# Altium schematic symbol library SYM-Passive.SchLib: 208 symbols (part 8 of 9)
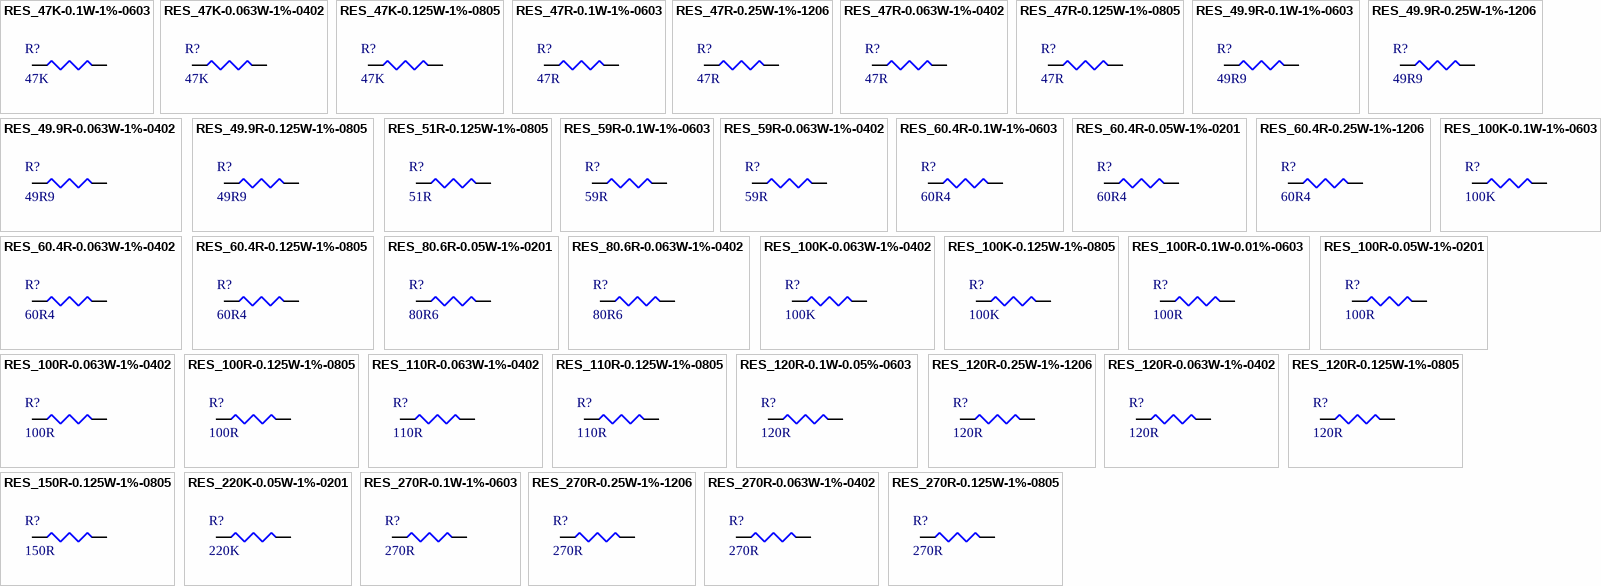
[diagram p12: symbols RES_47K-0.1W-1%-0603 to RES_270R-0.125W-1%-0805]

## RES_60.4R-0.25W-1%-1206
designator R?, comment 60R4
Res Thick Film 1206 60.4 Ohm 1% 1/4W ±100ppm/°C Molded SMD SMD Paper T/R; Manufacturer: Yageo; Manufacturer Part Number: RC1206FR-1360R4L; Value: 60.4R; Power Rating: 250mW; Voltage Rating: 200V; Supplier: Digi-Key; Supplier Part Number: 13-RC1206FR-1360R4LCT-ND; Category: Chip SMD Resistors; Stock: 37118; Pricing: 1=0.10000, 10=0.05900, 100=0.02380, 1000=0.01071, 2500=0.00929, 5000=0.00768 (USD); Case/Package: 1206; Case Code (Imperial): 1206; Case Code (Metric): 3216; Weight: 0.000571oz; Contact Plating: Tin; Min Operating Temperature: -55°C; Max Operating Temperature: 155°C; Tolerance: 1%; Packaging: Tape and Reel; Resistor Type: Thick Film; Termination: SMD/SMT; Temperature Coefficient: 100ppm/°C; Series: RC1206; Length: 3.2mm; Width: 1.6mm; Height: 0.55mm; Radiation Hardening: No; RoHS Compliant: Yes; ComponentLink1URL: http://www.mouser.com/ds/2/447/PYu-RC1206_51_RoHS_L-4-349080.pdf?src-supplier=Mouser; ComponentLink1Description: http://www.mouser.com/ds/2/447/PYu-RC1206_51_RoHS_L-4-349080.pdf?src-supplier=Mouser; ComponentLink2URL: http://www.yageo.com/documents/recent/PYu-RC_Group_51_RoHS_L_2.pdf?src-supplier=Avnet; ComponentLink2Description: http://www.yageo.com/documents/recent/PYu-RC_Group_51_RoHS_L_2.pdf?src-supplier=Avnet; ComponentLink3URL: https://datasheet.octopart.com/RC1206FR-1360R4L-Yageo-datasheet-73766026.pdf; ComponentLink3Description: https://datasheet.octopart.com/RC1206FR-1360R4L-Yageo-datasheet-73766026.pdf
footprint RESC3116X06N - 1206 (Chip Resistor, 2-Leads, Body 3/10x1/60mm, IPC Medium Density)
footprint RESC3116X06M - 1206 (Chip Resistor, 2-Leads, Body 3/10x1/60mm, IPC Low Density)
footprint RESC3116X06L - 1206 (Chip Resistor, 2-Leads, Body 3/10x1/60mm, IPC High Density)
pins: 1, 2

## RES_60.4R-0.063W-1%-0402
designator R?, comment 60R4
Res Thick Film 0402 60.4 Ohm 1% 1/16W ±100ppm/°C Molded SMD Paper T/R; Manufacturer: Yageo; Manufacturer Part Number: RC0402FR-0760R4L; Value: 60.4R; Power Rating: 62.5mW; Voltage Rating: 50V; Max Power Dissipation: 63mW; Supplier: Digi-Key; Supplier Part Number: 311-60.4LRCT-ND; RoHS: Yes; Category: Chip SMD Resistors; Stock: 1115302; Pricing: 1=0.10000, 10=0.01400, 100=0.00580, 1000=0.00262, 2500=0.00228, 5000=0.00188 (USD); Case/Package: 0402; Case Code (Imperial): 0402; Case Code (Metric): 1005; Contact Plating: Tin,Matte; Min Operating Temperature: -55°C; Max Operating Temperature: 155°C; Tolerance: 1%; Packaging: Cut Tape; Package Quantity: 1; Termination: SMD/SMT; Resistor Type: Thick Film; Number of Terminations: 2; Temperature Coefficient: 100ppm/°C; Voltage Rating (DC): 50V; Features: Moisture Resistant; Series: RC; Resistance Tolerance: 1%; Construction: Rectangular; Length: 0.039inch; Width: 0.02inch; Height: 0.016inch; Depth: 0.5mm; Reach SVHC Compliant: Yes; Military Standard: Not; Lead Free: Lead Free; RoHS Compliant: Yes; ComponentLink1URL: https://datasheet.ciiva.com/22643/1018594-22643403.pdf?src-supplier=Element14; ComponentLink1Description: https://datasheet.ciiva.com/22643/1018594-22643403.pdf?src-supplier=Element14; ComponentLink2URL: https://datasheet.ciiva.com/2491/pyu-r-int-thick-7-2491214.pdf?src-supplier=Digi-Key; ComponentLink2Description: https://datasheet.ciiva.com/2491/pyu-r-int-thick-7-2491214.pdf?src-supplier=Digi-Key; ComponentLink3URL: https://datasheet.ciiva.com/2491/pyu-r-int-thick-7-2491215.pdf?src-supplier=Digi-Key; ComponentLink3Description: https://datasheet.ciiva.com/2491/pyu-r-int-thick-7-2491215.pdf?src-supplier=Digi-Key; ComponentLink4URL: https://datasheet.ciiva.com/2491/pyu-r-int-thick-7-2491213.pdf?src-supplier=Digi-Key; ComponentLink4Description: https://datasheet.ciiva.com/2491/pyu-r-int-thick-7-2491213.pdf?src-supplier=Digi-Key
footprint RESC1005X04N - 0402 (Chip Resistor, 2-Leads, Body 1/00x0/50mm, IPC Medium Density)
footprint RESC1005X04M - 0402 (Chip Resistor, 2-Leads, Body 1/00x0/50mm, IPC Low Density)
footprint RESC1005X04L - 0402 (Chip Resistor, 2-Leads, Body 1/00x0/50mm, IPC High Density)
pins: 1, 2

## RES_60.4R-0.125W-1%-0805
designator R?, comment 60R4
Res Thick Film 0805 60.4 Ohm 1% 0.125W(1/8W) ±100ppm/C Pad SMD T/R; Manufacturer: Yageo; Manufacturer Part Number: RC0805FR-0760R4L; Value: 60.4R; Power Rating: 125mW; Temperature Coefficient: 100ppm/°C; Voltage Rating (DC): 150V; Supplier: Digi-Key; Supplier Part Number: 311-60.4CRCT-ND; RoHS: Yes; Category: Chip SMD Resistors; Stock: 405039; Pricing: 1=0.10000, 10=0.03300, 100=0.01330, 1000=0.00600, 2500=0.00520 (USD); Case/Package: 0805; Case Code (Metric): 2012; Case Code (Imperial): 0805; Contact Plating: Tin,Matte,Lead; Min Operating Temperature: -55°C; Max Operating Temperature: 155°C; Package Quantity: 1; Tolerance: 1%; Packaging: Tape and Reel; Resistor Type: Thick Film; Number of Terminations: 2; Max Power Dissipation: 125mW; Features: Moisture Resistant; Series: RC; Construction: Rectangular; Voltage Rating: 150V; Termination: SMD/SMT; Working Voltage: 150V; Technology: THICK FILM; Length: 0.079inch; Width: 0.049inch; Height: 0.024inch; Depth: 1.25mm; Radiation Hardening: No; Military Standard: Not; RoHS Compliant: Yes; Lead Free: Lead Free; ComponentLink1URL: https://datasheet.ciiva.com/2457/pyu-r-int-thick-7-2457216.pdf?src-supplier=Digi-Key; ComponentLink1Description: https://datasheet.ciiva.com/2457/pyu-r-int-thick-7-2457216.pdf?src-supplier=Digi-Key; ComponentLink2URL: https://datasheet.ciiva.com/2457/pyu-r-int-thick-7-2457217.pdf?src-supplier=Digi-Key; ComponentLink2Description: https://datasheet.ciiva.com/2457/pyu-r-int-thick-7-2457217.pdf?src-supplier=Digi-Key; ComponentLink3URL: https://datasheet.ciiva.com/2457/pyu-r-int-thick-7-2457215.pdf?src-supplier=Digi-Key; ComponentLink3Description: https://datasheet.ciiva.com/2457/pyu-r-int-thick-7-2457215.pdf?src-supplier=Digi-Key
footprint RESC2012X05N - 0805 (Chip Resistor, 2-Leads, Body 2/00x1/25mm, IPC Medium Density)
footprint RESC2012X05M - 0805 (Chip Resistor, 2-Leads, Body 2/00x1/25mm, IPC Low Density)
footprint RESC2012X05L - 0805 (Chip Resistor, 2-Leads, Body 2/00x1/25mm, IPC High Density)
pins: 1, 2

## RES_80.6R-0.05W-1%-0201
designator R?, comment 80R6
Res Thick Film 0201 80.6 Ohm 1% 1/20W ±200ppm/°C Molded SMD Paper T/R; Manufacturer: Yageo; Manufacturer Part Number: RC0201FR-0780R6L; Resistance: 80.6R; Max Power Dissipation: 50mW; Supplier 1: Digi-Key; RoHS: Yes; Category: Chip SMD Resistors; Stock 1: 16690; Pricing 1: 1=0/10000, 10=0/04200, 100=0/01700, 1000=0/00765, 2500=0/00664, 5000=0/00548 (USD); Case/Package: 0201; Case Code (Metric): 0603; Case Code (Imperial): 0201; Min Operating Temperature: -55°C; Max Operating Temperature: 125°C; Tolerance: 1%; Packaging: Tape and Reel; Resistor Type: Thick Film; Number of Terminations: 2; Temperature Coefficient: 200ppm/°C; Features: Moisture Resistant; Length: 0.024inch; Width: 0.012inch; Height: 0.01inch; RoHS Compliant: Yes; ComponentLink1URL: http://www.mouser.com/ds/2/447/RC0201-559633.pdf?src-supplier=Mouser; ComponentLink1Description: http://www.mouser.com/ds/2/447/RC0201-559633.pdf?src-supplier=Mouser; ComponentLink2URL: http://www.yageo.com/documents/recent/PYu-RC_Group_51_RoHS_L_9.pdf?src-supplier=Digi-Key; ComponentLink2Description: http://www.yageo.com/documents/recent/PYu-RC_Group_51_RoHS_L_9.pdf?src-supplier=Digi-Key; ComponentLink3URL: http://www.yageo.com/documents/recent/PYu-RC_Group_51_RoHS_L_10.pdf?src-supplier=Digi-Key; ComponentLink3Description: http://www.yageo.com/documents/recent/PYu-RC_Group_51_RoHS_L_10.pdf?src-supplier=Digi-Key; Supplier Part Number 1: YAG2811CT-ND
footprint RESC0603X03N - 0201 (Chip Resistor, 2-Leads, Body 0/60x0/30mm, IPC Medium Density)
footprint RESC0603X03M - 0201 (Chip Resistor, 2-Leads, Body 0/60x0/30mm, IPC Low Density)
footprint RESC0603X03L - 0201 (Chip Resistor, 2-Leads, Body 0/60x0/30mm, IPC High Density)
pins: 1, 2

## RES_80.6R-0.063W-1%-0402
designator R?, comment 80R6
Res Thick Film 0402 80.6 Ohm 1% 0.063W(1/16W) ±100ppm/°C Pad SMD T/R; Manufacturer: Yageo; Manufacturer Part Number: RC0402FR-0780R6L; Resistance: 80.6R; Power Rating: 62.5mW; Voltage Rating: 50V; Max Power Dissipation: 63mW; Supplier 1: Digi-Key; RoHS: Yes; Category: Chip SMD Resistors; Stock 1: 149146; Pricing 1: 1=0/10000, 10=0/01600, 100=0/00660, 1000=0/00299, 2500=0/00259, 5000=0/00214 (USD); Case/Package: 0402; Case Code (Imperial): 0402; Case Code (Metric): 1005; Weight: 2.3E-05oz; Contact Plating: Tin,Matte,Lead; Size Code: 0402; Min Operating Temperature: -55°C; Max Operating Temperature: 155°C; Tolerance: 1%; Packaging: Tape and Reel; Termination: SMD/SMT; Resistor Type: Thick Film; Temperature Coefficient: 100ppm/°C; Voltage Rating (DC): 50V; Features: Moisture Resistant; Series: RC; Number of Terminations: 2; Construction: Rectangular; Length: 1mm; Width: 0.5mm; Height: 0.35mm; Depth: 0.5mm; Radiation Hardening: No; Military Standard: Not; Lead Free: Lead Free; RoHS Compliant: Yes; ComponentLink1URL: https://datasheet.ciiva.com/5562/pyu-rc0402-51-rohs-l-6-r-5562860.pdf?src-supplier=Mouser; ComponentLink1Description: https://datasheet.ciiva.com/5562/pyu-rc0402-51-rohs-l-6-r-5562860.pdf?src-supplier=Mouser; ComponentLink2URL: https://datasheet.ciiva.com/8888/pyu-rc0402-51-rohs-l-6-8888184.pdf?src-supplier=Avnet; ComponentLink2Description: https://datasheet.ciiva.com/8888/pyu-rc0402-51-rohs-l-6-8888184.pdf?src-supplier=Avnet; ComponentLink3URL: https://datasheet.ciiva.com/16742/pyu-rc0402-51-rohs-l-6-r-16742232.pdf?src-supplier=Future+Electronics; ComponentLink3Description: https://datasheet.ciiva.com/16742/pyu-rc0402-51-rohs-l-6-r-16742232.pdf?src-supplier=Future+Electronics; Supplier Part Number 1: 311-80.6LRCT-ND
footprint RESC1005X04N - 0402 (Chip Resistor, 2-Leads, Body 1/00x0/50mm, IPC Medium Density)
footprint RESC1005X04M - 0402 (Chip Resistor, 2-Leads, Body 1/00x0/50mm, IPC Low Density)
footprint RESC1005X04L - 0402 (Chip Resistor, 2-Leads, Body 1/00x0/50mm, IPC High Density)
pins: 1, 2

## RES_100K-0.1W-1%-0603
designator R?, comment 100K
RES SMD 100K OHM 1% 1/10W 0603; Manufacturer: Yageo; Manufacturer Part Number: RC0603FR-07100KL; Resistance: 100kR; Temperature Coefficient: 100ppm/°C; Voltage Rating (DC): 50V; Power Rating: 100mW; Working Voltage: 75V; Supplier 1: Digi-Key; RoHS: Yes; Category: Chip SMD Resistors; Stock 1: 15050155; Pricing 1: 1=0/10000, 10=0/02100, 100=0/00870, 1000=0/00390, 2500=0/00339 (USD); Case/Package: 0603; Number of Pins: 2; Case Code (Imperial): 0603; Case Code (Metric): 1608; Min Operating Temperature: -55°C; Max Operating Temperature: 155°C; Tolerance: 1%; Packaging: Tape and Reel; Resistor Type: Thick Film; Voltage Rating: 50V; Termination: SMD/SMT; Number of Terminations: 2; Features: Moisture Resistant; Series: RC; Max Power Dissipation: 100mW; Resistance Tolerance: 1%; Construction: Rectangular; Technology: THICK FILM; Length: 1.6mm; Width: 0.8mm; Height: 0.45mm; Depth: 0.8mm; Reach SVHC Compliant: Yes; Lead Free: Lead Free; Military Standard: Not; RoHS Compliant: Yes; ComponentLink1URL: https://datasheet.ciiva.com/11808/0900766b80f96399-11808107.pdf?src-supplier=RSComponents; ComponentLink1Description: https://datasheet.ciiva.com/11808/0900766b80f96399-11808107.pdf?src-supplier=RSComponents; ComponentLink2URL: https://datasheet.ciiva.com/7983/443971-7983593.pdf?src-supplier=Element14; ComponentLink2Description: https://datasheet.ciiva.com/7983/443971-7983593.pdf?src-supplier=Element14; ComponentLink3URL: https://datasheet.ciiva.com/22747/443971-22747516.pdf?src-supplier=Element14; ComponentLink3Description: https://datasheet.ciiva.com/22747/443971-22747516.pdf?src-supplier=Element14; ComponentLink4URL: https://datasheet.ciiva.com/46440/1868787-46440889.pdf?src-supplier=Element14; ComponentLink4Description: https://datasheet.ciiva.com/46440/1868787-46440889.pdf?src-supplier=Element14; ComponentLink5URL: https://datasheet.ciiva.com/7746/1738695-7746235.pdf?src-supplier=Element14; ComponentLink5Description: https://datasheet.ciiva.com/7746/1738695-7746235.pdf?src-supplier=Element14; ComponentLink6URL: https://datasheet.ciiva.com/7746/1738695-7746234.pdf?src-supplier=Element14; ComponentLink6Description: https://datasheet.ciiva.com/7746/1738695-7746234.pdf?src-supplier=Element14; Supplier Part Number 1: 311-100KHRCT-ND
footprint RESC1608X04N - 0603 (Chip Resistor, 2-Leads, Body 1/60x0/80mm, IPC Medium Density)
footprint RESC1608X04M - 0603 (Chip Resistor, 2-Leads, Body 1/60x0/80mm, IPC Low Density)
footprint RESC1608X04L - 0603 (Chip Resistor, 2-Leads, Body 1/60x0/80mm, IPC High Density)
pins: 1, 2

## RES_100K-0.063W-1%-0402
designator R?, comment 100K
RES SMD 100K OHM 1% 1/16W 0402; Manufacturer: Yageo; Manufacturer Part Number: RC0402FR-07100KL; Resistance: 100kR; Temperature Coefficient: 100ppm/°C; Power Rating: 63mW; Voltage Rating: 50V; Supplier 1: Digi-Key; RoHS: Yes; Category: Chip SMD Resistors; Stock 1: 43188685; Pricing 1: 1=0/10000, 10=0/01500, 100=0/00600, 1000=0/00267, 2500=0/00232, 5000=0/00192 (USD); Case/Package: 0402; Case Code (Metric): 1005; Case Code (Imperial): 0402; Min Operating Temperature: -55°C; Max Operating Temperature: 155°C; Tolerance: 1%; Packaging: Tape and Reel; Resistor Type: Thick Film; Number of Terminations: 2; Termination: SMD/SMT; Max Power Dissipation: 63mW; Features: Moisture Resistant; Series: RC; Resistance Tolerance: 1%; Construction: Rectangular; Working Voltage: 50V; Technology: THICK FILM; Package Quantity: 1; Length: 0.039inch; Width: 0.02inch; Height: 0.016inch; Depth: 0.5mm; Lead Free: Lead Free; Reach SVHC Compliant: Yes; Military Standard: Not; RoHS Compliant: Yes; Supplier Part Number 1: 311-100KLRCT-ND
footprint RESC1005X04N - 0402 (Chip Resistor, 2-Leads, Body 1/00x0/50mm, IPC Medium Density)
footprint RESC1005X04M - 0402 (Chip Resistor, 2-Leads, Body 1/00x0/50mm, IPC Low Density)
footprint RESC1005X04L - 0402 (Chip Resistor, 2-Leads, Body 1/00x0/50mm, IPC High Density)
pins: 1, 2

## RES_100K-0.125W-1%-0805
designator R?, comment 100K
Res Thick Film 0805 100K Ohm 1% 1/8W ±100ppm/°C Molded SMD Paper T/R; Manufacturer: Yageo; Manufacturer Part Number: RC0805FR-07100KL; Resistance: 100kR; Voltage Rating (DC): 150V; Power Rating: 125mW; Supplier 1: Digi-Key; RoHS: Yes; Category: Chip SMD Resistors; Stock 1: 6578896; Pricing 1: 1=0/10000, 10=0/03700, 100=0/01510, 1000=0/00680, 2500=0/00590 (USD); Case/Package: 0805; Number of Pins: 2; Case Code (Metric): 2012; Case Code (Imperial): 0805; Size Code: 0805; Min Operating Temperature: -55°C; Max Operating Temperature: 155°C; Tolerance: 1%; Packaging: Tape and Reel; Temperature Coefficient: 100ppm/°C; Resistor Type: Thick Film; Voltage Rating: 150V; Package Quantity: 1; Number of Terminations: 2; Termination: SMD/SMT; Max Power Dissipation: 125mW; Features: Moisture Resistant; Series: RC; Construction: Rectangular; Resistance Tolerance: 1%; Technology: THICK FILM; Length: 0.079inch; Width: 0.049inch; Height: 0.024inch; Depth: 1.25mm; Lead Pitch: 0.4mm; Lead Free: Lead Free; Military Standard: Not; RoHS Compliant: Yes; ComponentLink1URL: https://datasheet.ciiva.com/7941/1686128-7941677.pdf?src-supplier=Element14; ComponentLink1Description: https://datasheet.ciiva.com/7941/1686128-7941677.pdf?src-supplier=Element14; ComponentLink2URL: https://datasheet.ciiva.com/7660/38627-7660796.pdf?src-supplier=Element14; ComponentLink2Description: https://datasheet.ciiva.com/7660/38627-7660796.pdf?src-supplier=Element14; Supplier Part Number 1: 311-100KCRCT-ND
footprint RESC2012X05N - 0805 (Chip Resistor, 2-Leads, Body 2/00x1/25mm, IPC Medium Density)
footprint RESC2012X05M - 0805 (Chip Resistor, 2-Leads, Body 2/00x1/25mm, IPC Low Density)
footprint RESC2012X05L - 0805 (Chip Resistor, 2-Leads, Body 2/00x1/25mm, IPC High Density)
pins: 1, 2

## RES_100R-0.1W-0.01%-0603
designator R?, comment 100R
RNCF Precision Thin Film Chip Resistor 0603 Size 100 Ohm 0.01% 0.1 W 5 ppm/°C 2-Pin SMD T/R; Manufacturer: Stackpole Electronics; Manufacturer Part Number: RNCF0603TKY100R; Max Power Dissipation: 100mW; Supplier 1: Digi-Key; RoHS: Yes; Category: Chip SMD Resistors; Stock 1: 8959; Pricing 1: 1=1/95000, 10=1/73200, 100=1/32300 (USD); Mount: Surface Mount; Case/Package: 0603; Case Code (Metric): 1608; Case Code (Imperial): 0603; Min Operating Temperature: -55°C; Max Operating Temperature: 155°C; Resistance: 100R; Tolerance: 0.01%; Packaging: Tape and Reel; Resistor Type: Thin Film; Number of Terminations: 2; Temperature Coefficient: 5ppm/°C; Features: Moisture Resistant; Series: RNCF; Construction: Rectangular; Length: 0.063inch; Width: 0.031inch; Height: 0.022inch; Depth: 0.8mm; Military Standard: Not; Lead Free: Lead Free; RoHS Compliant: Yes; ComponentLink1URL: http://components.arrow.com/part/dataview/53543996S797665N1174?src-supplier=Arrow+Electronics; ComponentLink1Description: http://components.arrow.com/part/dataview/53543996S797665N1174?src-supplier=Arrow+Electronics; ComponentLink2URL: https://www.seielect.com/Catalog/SEI-RNCF.pdf?src-supplier=Digi-Key; ComponentLink2Description: https://www.seielect.com/Catalog/SEI-RNCF.pdf?src-supplier=Digi-Key; ComponentLink3URL: https://www.seielect.com/catalog/SEI-Packaging.pdf?src-supplier=Digi-Key; ComponentLink3Description: https://www.seielect.com/catalog/SEI-Packaging.pdf?src-supplier=Digi-Key; Supplier Part Number 1: RNCF0603TKY100RCT-ND
footprint RESC1608X04N - 0603 (Chip Resistor, 2-Leads, Body 1/60x0/80mm, IPC Medium Density)
footprint RESC1608X04M - 0603 (Chip Resistor, 2-Leads, Body 1/60x0/80mm, IPC Low Density)
footprint RESC1608X04L - 0603 (Chip Resistor, 2-Leads, Body 1/60x0/80mm, IPC High Density)
pins: 1, 2

## RES_100R-0.05W-1%-0201
designator R?, comment 100R
Res Thick Film 0201 10 Ohm 1% 1/20W -100ppm/°C to 350ppm/°C Molded SMD SMD Paper T/R; Manufacturer: Yageo; Manufacturer Part Number: RC0201FR-0710RL; Resistance: 10R; Power Rating: 50mW; Voltage Rating: 25V; Supplier 1: Digi-Key; RoHS: Yes; Category: Chip SMD Resistors; Stock 1: 22308; Pricing 1: 1=0/10000, 10=0/06300, 100=0/02560, 1000=0/01149, 2500=0/00997, 5000=0/00824 (USD); Case/Package: 0201; Case Code (Imperial): 0201; Case Code (Metric): 0603; Contact Plating: Tin,Matte; Size Code: 0201; Min Operating Temperature: -55°C; Max Operating Temperature: 125°C; Tolerance: 1%; Packaging: Tape and Reel; Package Quantity: 1; Termination: SMD/SMT; Resistor Type: Thick Film; Temperature Coefficient: 350ppm/°C; Number of Terminations: 2; Max Power Dissipation: 50mW; Features: Moisture Resistant; Series: RC; Resistance Tolerance: 1%; Length: 0.024inch; Width: 0.012inch; Height: 0.01inch; Radiation Hardening: No; REACH SVHC: No SVHC; Lead Free: Lead Free; RoHS Compliant: Yes; ComponentLink1URL: https://datasheet.ciiva.com/2467/pyu-r-int-thick-7-2467097.pdf?src-supplier=Digi-Key; ComponentLink1Description: https://datasheet.ciiva.com/2467/pyu-r-int-thick-7-2467097.pdf?src-supplier=Digi-Key; ComponentLink2URL: https://datasheet.ciiva.com/2467/pyu-r-int-thick-7-2467098.pdf?src-supplier=Digi-Key; ComponentLink2Description: https://datasheet.ciiva.com/2467/pyu-r-int-thick-7-2467098.pdf?src-supplier=Digi-Key; ComponentLink3URL: https://datasheet.ciiva.com/2467/pyu-r-int-thick-7-2467099.pdf?src-supplier=Digi-Key; ComponentLink3Description: https://datasheet.ciiva.com/2467/pyu-r-int-thick-7-2467099.pdf?src-supplier=Digi-Key; ComponentLink4URL: https://datasheet.ciiva.com/5757/1563626-5757896.pdf?src-supplier=Farnell; ComponentLink4Description: https://datasheet.ciiva.com/5757/1563626-5757896.pdf?src-supplier=Farnell; ComponentLink5URL: https://datasheet.ciiva.com/7672/1563626-7672197.pdf?src-supplier=Element14; ComponentLink5Description: https://datasheet.ciiva.com/7672/1563626-7672197.pdf?src-supplier=Element14; ComponentLink6URL: https://datasheet.ciiva.com/16855/pyu-rc0201-51-rohs-l-8-16855798.pdf?src-supplier=Avnet+Europe; ComponentLink6Description: https://datasheet.ciiva.com/16855/pyu-rc0201-51-rohs-l-8-16855798.pdf?src-supplier=Avnet+Europe; ComponentLink7URL: https://datasheet.ciiva.com/28405/pyu-rc0201-51-rohs-l-8-28405493.pdf?src-supplier=Avnet+Europe; ComponentLink7Description: https://datasheet.ciiva.com/28405/pyu-rc0201-51-rohs-l-8-28405493.pdf?src-supplier=Avnet+Europe; Supplier Part Number 1: 311-10.0MCT-ND
footprint RESC0603X03N - 0201 (Chip Resistor, 2-Leads, Body 0/60x0/30mm, IPC Medium Density)
footprint RESC0603X03M - 0201 (Chip Resistor, 2-Leads, Body 0/60x0/30mm, IPC Low Density)
footprint RESC0603X03L - 0201 (Chip Resistor, 2-Leads, Body 0/60x0/30mm, IPC High Density)
pins: 1, 2

## RES_100R-0.063W-1%-0402
designator R?, comment 100R
Res General Purpose Thick Film 0402 100 Ohm 1% 1/16W ±100ppm/°C Molded SMD Paper T/R; Manufacturer: Yageo; Manufacturer Part Number: RC0402FR-07100RL; Power Rating: 62.5mW; Voltage Rating: 50V; Max Power Dissipation: 63mW; Supplier 1: Digi-Key; RoHS: Yes; Category: Chip SMD Resistors; Pricing 1: 1=0/10000, 10=0/01600, 100=0/00660, 1000=0/00299, 2500=0/00259, 5000=0/00214 (USD); Case/Package: 0402; Number of Pins: 2; Case Code (Imperial): 0402; Case Code (Metric): 1005; Size Code: 0402; Min Operating Temperature: -55°C; Max Operating Temperature: 155°C; Tolerance: 1%; Resistance: 100R; Packaging: Tape and Reel; Termination: SMD/SMT; Resistor Type: Thick Film; Temperature Coefficient: 100ppm/°C; Features: Moisture Resistant; Series: RC; Number of Terminations: 2; Resistance Tolerance: 1%; Construction: Rectangular; Technology: THICK FILM; Voltage Rating (DC): 50V; Length: 1mm; Width: 0.5mm; Height: 0.32mm; Depth: 0.5mm; REACH SVHC: No SVHC; Military Standard: Not; Lead Free: Lead Free; RoHS Compliant: Yes; ComponentLink1URL: https://datasheet.ciiva.com/7849/1784430-7849810.pdf?src-supplier=Element14; ComponentLink1Description: https://datasheet.ciiva.com/7849/1784430-7849810.pdf?src-supplier=Element14; ComponentLink2URL: https://datasheet.ciiva.com/11808/0900766b80c66297-11808765.pdf?src-supplier=RSComponents; ComponentLink2Description: https://datasheet.ciiva.com/11808/0900766b80c66297-11808765.pdf?src-supplier=RSComponents; ComponentLink3URL: https://datasheet.ciiva.com/12667/pyu-rc0402-51-rohs-l-6-r-12667957.pdf?src-supplier=Mouser; ComponentLink3Description: https://datasheet.ciiva.com/12667/pyu-rc0402-51-rohs-l-6-r-12667957.pdf?src-supplier=Mouser; ComponentLink4URL: https://datasheet.ciiva.com/16740/pyu-rc0402-51-rohs-l-6-r-16740566.pdf?src-supplier=Future+Electronics; ComponentLink4Description: https://datasheet.ciiva.com/16740/pyu-rc0402-51-rohs-l-6-r-16740566.pdf?src-supplier=Future+Electronics; ComponentLink5URL: https://datasheet.ciiva.com/15189/getdatasheetpartid-329466-15189335.pdf?src-supplier=Verical; ComponentLink5Description: https://datasheet.ciiva.com/15189/getdatasheetpartid-329466-15189335.pdf?src-supplier=Verical; ComponentLink6URL: https://datasheet.ciiva.com/22747/1018594-22747511.pdf?src-supplier=Element14; ComponentLink6Description: https://datasheet.ciiva.com/22747/1018594-22747511.pdf?src-supplier=Element14; ComponentLink7URL: https://datasheet.ciiva.com/28367/1018594-28367226.pdf?src-supplier=Element14; ComponentLink7Description: https://datasheet.ciiva.com/28367/1018594-28367226.pdf?src-supplier=Element14; Supplier Part Number 1: 311-100LRCT-ND
footprint RESC1005X04N - 0402 (Chip Resistor, 2-Leads, Body 1/00x0/50mm, IPC Medium Density)
footprint RESC1005X04M - 0402 (Chip Resistor, 2-Leads, Body 1/00x0/50mm, IPC Low Density)
footprint RESC1005X04L - 0402 (Chip Resistor, 2-Leads, Body 1/00x0/50mm, IPC High Density)
pins: 1, 2

## RES_100R-0.125W-1%-0805
designator R?, comment 100R
RC Series 0805 0.125 W 100 Ohm ±1% ±100 ppm/°C SMT Thick Film Chip Resistor; Manufacturer: Yageo; Manufacturer Part Number: RC0805FR-13100RL; Power Rating: 125mW; Voltage Rating: 150V; Supplier 1: Digi-Key; Category: Chip SMD Resistors; Stock 1: 42971; Pricing 1: 1=0/10000, 10=0/04200, 100=0/01690, 1000=0/00759, 2500=0/00659, 5000=0/00544 (USD); Case/Package: 0805; Case Code (Imperial): 0805; Case Code (Metric): 2012; Contact Plating: Tin; Min Operating Temperature: -55°C; Max Operating Temperature: 155°C; Resistance: 100R; Tolerance: 1%; Packaging: Tape and Reel; Resistor Type: Thick Film; Termination: SMD/SMT; Temperature Coefficient: 100ppm/°C; Series: RC; Length: 2mm; Width: 1.25mm; Height: 0.5mm; Radiation Hardening: No; RoHS Compliant: Yes; ComponentLink1URL: https://datasheet.ciiva.com/12560/rc0805-257173-12560677.pdf?src-supplier=Mouser; ComponentLink1Description: https://datasheet.ciiva.com/12560/rc0805-257173-12560677.pdf?src-supplier=Mouser; ComponentLink2URL: https://datasheet.octopart.com/RC0805FR-13100RL-Yageo-datasheet-73766026.pdf; ComponentLink2Description: https://datasheet.octopart.com/RC0805FR-13100RL-Yageo-datasheet-73766026.pdf; ComponentLink3URL: https://datasheet.octopart.com/RC0805FR-13100RL-Yageo-datasheet-127823281.pdf?src-supplier=Future+Electronics; ComponentLink3Description: https://datasheet.octopart.com/RC0805FR-13100RL-Yageo-datasheet-127823281.pdf?src-supplier=Future+Electronics; ComponentLink4URL: https://datasheet.octopart.com/RC0805FR-13100RL-Yageo-datasheet-137700087.pdf?src-supplier=Future+Electronics; ComponentLink4Description: https://datasheet.octopart.com/RC0805FR-13100RL-Yageo-datasheet-137700087.pdf?src-supplier=Future+Electronics; ComponentLink5URL: https://datasheet.octopart.com/RC0805FR-13100RL-Yageo-datasheet-148775077.pdf?src-supplier=TME; ComponentLink5Description: https://datasheet.octopart.com/RC0805FR-13100RL-Yageo-datasheet-148775077.pdf?src-supplier=TME; Supplier Part Number 1: 13-RC0805FR-13100RLCT-ND
footprint RESC2012X05N - 0805 (Chip Resistor, 2-Leads, Body 2/00x1/25mm, IPC Medium Density)
footprint RESC2012X05M - 0805 (Chip Resistor, 2-Leads, Body 2/00x1/25mm, IPC Low Density)
footprint RESC2012X05L - 0805 (Chip Resistor, 2-Leads, Body 2/00x1/25mm, IPC High Density)
pins: 1, 2

## RES_110R-0.063W-1%-0402
designator R?, comment 110R
Res General Purpose Thick Film 0402 110 Ohm 1% 1/16W ±100ppm/°C Molded SMD Paper T/R; Manufacturer: Yageo; Manufacturer Part Number: RC0402FR-07110RL; Power Rating: 63mW; Voltage Rating: 50V; Supplier 1: Digi-Key; RoHS: Yes; Category: Chip SMD Resistors; Stock 1: 5787; Pricing 1: 1=0/10000, 10=0/01600, 100=0/00660, 1000=0/00299, 2500=0/00259, 5000=0/00214 (USD); Case/Package: 0402; Number of Pins: 2; Case Code (Imperial): 0402; Case Code (Metric): 1005; Weight: 2.3E-05oz; Size Code: 0402; Min Operating Temperature: -55°C; Max Operating Temperature: 155°C; Resistance: 110R; Tolerance: 1%; Packaging: Tape and Reel; Resistor Type: Thick Film; Termination: SMD/SMT; Temperature Coefficient: 100ppm/°C; Voltage Rating (DC): 50V; Features: Moisture Resistant; Series: RC; Max Power Dissipation: 63mW; Number of Terminations: 2; Resistance Tolerance: 1%; Construction: Rectangular; Length: 1mm; Width: 0.5mm; Height: 0.35mm; Depth: 0.5mm; REACH SVHC: No SVHC; Military Standard: Not; Lead Free: Lead Free; RoHS Compliant: Yes; ComponentLink1URL: https://datasheet.ciiva.com/12577/pyu-rc0402-51-rohs-l-6-r-12577287.pdf?src-supplier=Mouser; ComponentLink1Description: https://datasheet.ciiva.com/12577/pyu-rc0402-51-rohs-l-6-r-12577287.pdf?src-supplier=Mouser; ComponentLink2URL: https://datasheet.ciiva.com/17070/pyu-rc0402-51-rohs-l-6-r-17070361.pdf?src-supplier=Future+Electronics; ComponentLink2Description: https://datasheet.ciiva.com/17070/pyu-rc0402-51-rohs-l-6-r-17070361.pdf?src-supplier=Future+Electronics; ComponentLink3URL: https://datasheet.ciiva.com/15189/getdatasheetpartid-325087-15189341.pdf?src-supplier=Verical; ComponentLink3Description: https://datasheet.ciiva.com/15189/getdatasheetpartid-325087-15189341.pdf?src-supplier=Verical; ComponentLink4URL: https://datasheet.ciiva.com/7849/1018594-7849822.pdf?src-supplier=Element14; ComponentLink4Description: https://datasheet.ciiva.com/7849/1018594-7849822.pdf?src-supplier=Element14; ComponentLink5URL: https://datasheet.ciiva.com/7849/1018594-7849823.pdf?src-supplier=Element14; ComponentLink5Description: https://datasheet.ciiva.com/7849/1018594-7849823.pdf?src-supplier=Element14; Supplier Part Number 1: 311-110LRCT-ND
footprint RESC1005X04N - 0402 (Chip Resistor, 2-Leads, Body 1/00x0/50mm, IPC Medium Density)
footprint RESC1005X04M - 0402 (Chip Resistor, 2-Leads, Body 1/00x0/50mm, IPC Low Density)
footprint RESC1005X04L - 0402 (Chip Resistor, 2-Leads, Body 1/00x0/50mm, IPC High Density)
pins: 1, 2

## RES_110R-0.125W-1%-0805
designator R?, comment 110R
Res Thick Film 0805 1.1 Ohm 1% 1/8W 200ppm/C SMD Paper T/R; Manufacturer: Yageo; Manufacturer Part Number: RC0805FR-071R1L; Power Rating: 125mW; Voltage Rating: 150V; Temperature Coefficient: 200ppm/°C; Supplier 1: Digi-Key; RoHS: Yes; Category: Chip SMD Resistors; Stock 1: 63336; Pricing 1: 1=0/10000, 10=0/08300, 100=0/03390, 1000=0/01521, 2500=0/01320 (USD); Case/Package: 0805; Case Code (Imperial): 0805; Case Code (Metric): 2012; Contact Plating: Tin,Lead,Matte; Min Operating Temperature: -55°C; Max Operating Temperature: 155°C; Resistance: 110R; Tolerance: 1%; Packaging: Tape and Reel; Termination: SMD/SMT; Resistor Type: Thick Film; Voltage Rating (DC): 150V; Features: Moisture Resistant; Series: RC; Max Power Dissipation: 125mW; Number of Terminations: 2; Length: 2mm; Width: 1.25mm; Height: 0.5mm; Radiation Hardening: No; Lead Free: Lead Free; RoHS Compliant: Yes; ComponentLink1URL: https://datasheet.ciiva.com/12575/rc0805-257173-12575992.pdf?src-supplier=Mouser; ComponentLink1Description: https://datasheet.ciiva.com/12575/rc0805-257173-12575992.pdf?src-supplier=Mouser; Supplier Part Number 1: 311-1.10CRCT-ND
footprint RESC2012X05N - 0805 (Chip Resistor, 2-Leads, Body 2/00x1/25mm, IPC Medium Density)
footprint RESC2012X05M - 0805 (Chip Resistor, 2-Leads, Body 2/00x1/25mm, IPC Low Density)
footprint RESC2012X05L - 0805 (Chip Resistor, 2-Leads, Body 2/00x1/25mm, IPC High Density)
pins: 1, 2

## RES_120R-0.1W-0.05%-0603
designator R?, comment 120R
RES SMD 120 OHM 0.05% 1/10W 0603; Manufacturer: Yageo; Manufacturer Part Number: RT0603WRC07120RL; Max Power Dissipation: 100mW; Temperature Coefficient: 15ppm/°C; Supplier 1: Digi-Key; RoHS: Yes; Category: Chip SMD Resistors; Pricing 1: 5000=0/33646 (USD); Case/Package: 0603; Min Operating Temperature: -55°C; Max Operating Temperature: 155°C; Package Quantity: 5000; Packaging: Tape and Reel; Resistance: 120R; Resistor Type: Thin Film; Number of Terminations: 2; Tolerance: 0.05%; Features: Moisture Resistant; Length: 0.063inch; Width: 0.031inch; Height: 0.022inch; RoHS Compliant: Yes; ComponentLink1URL: http://www.yageo.com/documents/recent/PYu-RT_1-to-0.01_RoHS_L_9.pdf?src-supplier=Digi-Key; ComponentLink1Description: http://www.yageo.com/documents/recent/PYu-RT_1-to-0.01_RoHS_L_9.pdf?src-supplier=Digi-Key; Supplier Part Number 1: RT0603WRC07120RL-ND
footprint RESC1608X04N - 0603 (Chip Resistor, 2-Leads, Body 1/60x0/80mm, IPC Medium Density)
footprint RESC1608X04M - 0603 (Chip Resistor, 2-Leads, Body 1/60x0/80mm, IPC Low Density)
footprint RESC1608X04L - 0603 (Chip Resistor, 2-Leads, Body 1/60x0/80mm, IPC High Density)
pins: 1, 2

## RES_120R-0.25W-1%-1206
designator R?, comment 120R
Res Thick Film 1206 120 Ohm 1% 0.25W(1/4W) ±100ppm/C Pad SMD T/R; Manufacturer: Yageo; Manufacturer Part Number: RC1206FR-07120RL; Temperature Coefficient: 100ppm/°C; Power Rating: 250mW; Voltage Rating: 200V; Supplier: Digi-Key; Supplier Part Number: 311-120FRCT-ND; RoHS: Yes; Category: Chip SMD Resistors; Stock: 280758; Pricing: 1=0.10000, 10=0.05900, 100=0.02380, 1000=0.01071, 2500=0.00929 (USD); Case/Package: 1206; Case Code (Imperial): 1206; Case Code (Metric): 3216; Min Operating Temperature: -55°C; Max Operating Temperature: 155°C; Value: 120R; Tolerance: 1%; Packaging: Cut Tape; Resistor Type: Thick Film; Package Quantity: 5000; Termination: SMD/SMT; Features: Moisture Resistant; Series: RC; Max Power Dissipation: 250mW; Number of Terminations: 2; Resistance Tolerance: 1%; Technology: THICK FILM; Length: 3.1mm; Width: 1.6mm; Height: 0.55mm; Depth: 1.6mm; Lead Free: Lead Free; RoHS Compliant: Yes; ComponentLink1URL: https://datasheet.ciiva.com/11819/0900766b80c6630a-11819893.pdf?src-supplier=Rs; ComponentLink1Description: https://datasheet.ciiva.com/11819/0900766b80c6630a-11819893.pdf?src-supplier=Rs; ComponentLink2URL: https://datasheet.ciiva.com/16746/pyu-rc1206-51-rohs-l-4-16746171.pdf?src-supplier=Future+Electronics; ComponentLink2Description: https://datasheet.ciiva.com/16746/pyu-rc1206-51-rohs-l-4-16746171.pdf?src-supplier=Future+Electronics; ComponentLink3URL: https://datasheet.ciiva.com/7857/444357-7857253.pdf?src-supplier=Element14; ComponentLink3Description: https://datasheet.ciiva.com/7857/444357-7857253.pdf?src-supplier=Element14
footprint RESC3116X06N - 1206 (Chip Resistor, 2-Leads, Body 3/10x1/60mm, IPC Medium Density)
footprint RESC3116X06M - 1206 (Chip Resistor, 2-Leads, Body 3/10x1/60mm, IPC Low Density)
footprint RESC3116X06L - 1206 (Chip Resistor, 2-Leads, Body 3/10x1/60mm, IPC High Density)
pins: 1, 2

## RES_120R-0.063W-1%-0402
designator R?, comment 120R
Res General Purpose Thick Film 0402 120 Ohm 1% 1/16W ±100ppm/°C Molded Paper T/R; Manufacturer: Yageo; Manufacturer Part Number: RC0402FR-07120RL; Power Rating: 62.5mW; Voltage Rating: 50V; Max Power Dissipation: 63mW; Supplier 1: Digi-Key; RoHS: Yes; Category: Chip SMD Resistors; Stock 1: 1256657; Pricing 1: 1=0/10000, 10=0/01400, 100=0/00580, 1000=0/00262, 2500=0/00228, 5000=0/00188 (USD); Case/Package: 0402; Case Code (Imperial): 0402; Case Code (Metric): 1005; Size Code: 0402; Min Operating Temperature: -55°C; Max Operating Temperature: 155°C; Package Quantity: 1; Resistance: 120R; Tolerance: 1%; Packaging: Tape and Reel; Termination: SMD/SMT; Resistor Type: Thick Film; Number of Terminations: 2; Temperature Coefficient: 100ppm/°C; Features: Moisture Resistant; Series: RC; Resistance Tolerance: 1%; Construction: Rectangular; Technology: THICK FILM; Length: 0.039inch; Width: 0.02inch; Height: 0.016inch; Depth: 0.5mm; Reach SVHC Compliant: Yes; Military Standard: Not; Lead Free: Lead Free; RoHS Compliant: Yes; ComponentLink1URL: https://datasheet.ciiva.com/11808/0900766b80c66297-11808427.pdf?src-supplier=RSComponents; ComponentLink1Description: https://datasheet.ciiva.com/11808/0900766b80c66297-11808427.pdf?src-supplier=RSComponents; ComponentLink2URL: https://datasheet.ciiva.com/2453/pyu-r-int-thick-7-2453470.pdf?src-supplier=Digi-Key; ComponentLink2Description: https://datasheet.ciiva.com/2453/pyu-r-int-thick-7-2453470.pdf?src-supplier=Digi-Key; ComponentLink3URL: https://datasheet.ciiva.com/2453/pyu-r-int-thick-7-2453471.pdf?src-supplier=Digi-Key; ComponentLink3Description: https://datasheet.ciiva.com/2453/pyu-r-int-thick-7-2453471.pdf?src-supplier=Digi-Key; ComponentLink4URL: https://datasheet.ciiva.com/2453/pyu-r-int-thick-7-2453469.pdf?src-supplier=Digi-Key; ComponentLink4Description: https://datasheet.ciiva.com/2453/pyu-r-int-thick-7-2453469.pdf?src-supplier=Digi-Key; ComponentLink5URL: https://datasheet.ciiva.com/12667/pyu-rc0402-51-rohs-l-6-r-12667958.pdf?src-supplier=Mouser; ComponentLink5Description: https://datasheet.ciiva.com/12667/pyu-rc0402-51-rohs-l-6-r-12667958.pdf?src-supplier=Mouser; ComponentLink6URL: https://datasheet.ciiva.com/7849/1018594-7849830.pdf?src-supplier=Element14; ComponentLink6Description: https://datasheet.ciiva.com/7849/1018594-7849830.pdf?src-supplier=Element14; ComponentLink7URL: https://datasheet.ciiva.com/7849/1018594-7849831.pdf?src-supplier=Element14; ComponentLink7Description: https://datasheet.ciiva.com/7849/1018594-7849831.pdf?src-supplier=Element14; Supplier Part Number 1: 311-120LRCT-ND
footprint RESC1005X04N - 0402 (Chip Resistor, 2-Leads, Body 1/00x0/50mm, IPC Medium Density)
footprint RESC1005X04M - 0402 (Chip Resistor, 2-Leads, Body 1/00x0/50mm, IPC Low Density)
footprint RESC1005X04L - 0402 (Chip Resistor, 2-Leads, Body 1/00x0/50mm, IPC High Density)
pins: 1, 2

## RES_120R-0.125W-1%-0805
designator R?, comment 120R
Res Thick Film 0805 120 Ohm 1% 0.125W(1/8W) ±100ppm/C Pad SMD T/R; Manufacturer: Yageo; Manufacturer Part Number: RC0805FR-07120RL; Power Rating: 125mW; Voltage Rating: 150V; Temperature Coefficient: 100ppm/°C; Supplier 1: Digi-Key; RoHS: Yes; Category: Chip SMD Resistors; Stock 1: 1323797; Pricing 1: 1=0/10000, 10=0/04200, 100=0/01690, 1000=0/00759, 2500=0/00659 (USD); Case/Package: 0805; Case Code (Metric): 2012; Case Code (Imperial): 0805; Size Code: 0805; Min Operating Temperature: -55°C; Max Operating Temperature: 155°C; Resistance: 120R; Tolerance: 1%; Package Quantity: 1; Packaging: Tape and Reel; Resistor Type: Thick Film; Number of Terminations: 2; Termination: SMD/SMT; Max Power Dissipation: 125mW; Features: Moisture Resistant; Series: RC; Construction: Rectangular; Technology: THICK FILM; Resistance Tolerance: 1%; Length: 2mm; Width: 0.049inch; Height: 0.5mm; Depth: 1.25mm; REACH SVHC: Unknown; Military Standard: Not; Lead Free: Lead Free; RoHS Compliant: Yes; ComponentLink1URL: https://datasheet.ciiva.com/11819/0900766b8106beab-11819786.pdf?src-supplier=RSComponents; ComponentLink1Description: https://datasheet.ciiva.com/11819/0900766b8106beab-11819786.pdf?src-supplier=RSComponents; ComponentLink2URL: https://datasheet.ciiva.com/2491/pyu-r-int-thick-7-2491586.pdf?src-supplier=Digi-Key; ComponentLink2Description: https://datasheet.ciiva.com/2491/pyu-r-int-thick-7-2491586.pdf?src-supplier=Digi-Key; ComponentLink3URL: https://datasheet.ciiva.com/2491/pyu-r-int-thick-7-2491587.pdf?src-supplier=Digi-Key; ComponentLink3Description: https://datasheet.ciiva.com/2491/pyu-r-int-thick-7-2491587.pdf?src-supplier=Digi-Key; ComponentLink4URL: https://datasheet.ciiva.com/2491/pyu-r-int-thick-7-2491585.pdf?src-supplier=Digi-Key; ComponentLink4Description: https://datasheet.ciiva.com/2491/pyu-r-int-thick-7-2491585.pdf?src-supplier=Digi-Key; ComponentLink5URL: https://datasheet.ciiva.com/12558/rc0805-257173-12558661.pdf?src-supplier=Mouser; ComponentLink5Description: https://datasheet.ciiva.com/12558/rc0805-257173-12558661.pdf?src-supplier=Mouser; ComponentLink6URL: https://datasheet.ciiva.com/7941/444164-7941691.pdf?src-supplier=Element14; ComponentLink6Description: https://datasheet.ciiva.com/7941/444164-7941691.pdf?src-supplier=Element14; ComponentLink7URL: https://datasheet.ciiva.com/7941/444164-7941692.pdf?src-supplier=Element14; ComponentLink7Description: https://datasheet.ciiva.com/7941/444164-7941692.pdf?src-supplier=Element14; ComponentLink8URL: https://datasheet.ciiva.com/16964/rc0805-16964606.pdf?src-supplier=Future+Electronics; ComponentLink8Description: https://datasheet.ciiva.com/16964/rc0805-16964606.pdf?src-supplier=Future+Electronics; Supplier Part Number 1: 311-120CRCT-ND
footprint RESC2012X05N - 0805 (Chip Resistor, 2-Leads, Body 2/00x1/25mm, IPC Medium Density)
footprint RESC2012X05M - 0805 (Chip Resistor, 2-Leads, Body 2/00x1/25mm, IPC Low Density)
footprint RESC2012X05L - 0805 (Chip Resistor, 2-Leads, Body 2/00x1/25mm, IPC High Density)
pins: 1, 2

## RES_150R-0.125W-1%-0805
designator R?, comment 150R
Res Thick Film 0805 150 Ohm 1% 0.125W(1/8W) ±100ppm/°C Pad SMD T/R; Manufacturer: Yageo; Manufacturer Part Number: RC0805FR-07150RL; Power Rating: 125mW; Voltage Rating: 150V; Supplier 1: Digi-Key; RoHS: Yes; Category: Chip SMD Resistors; Stock 1: 2244413; Pricing 1: 1=0/10000, 10=0/04200, 100=0/01690, 1000=0/00759, 2500=0/00659 (USD); Case/Package: 0805; Number of Pins: 2; Case Code (Metric): 2012; Case Code (Imperial): 0805; Size Code: 0805; Min Operating Temperature: -55°C; Max Operating Temperature: 155°C; Resistance: 150R; Tolerance: 1%; Voltage Rating (DC): 150V; Package Quantity: 1; Packaging: Tape and Reel; Resistor Type: Thick Film; Number of Terminations: 2; Termination: SMD/SMT; Temperature Coefficient: 100ppm/°C; Max Power Dissipation: 125mW; Features: Moisture Resistant; Series: RC; Resistance Tolerance: 1%; Technology: THICK FILM; Construction: Rectangular; Length: 2mm; Width: 0.049inch; Height: 0.024inch; Depth: 1.25mm; REACH SVHC: Unknown; Lead Free: Lead Free; RoHS Compliant: Yes; Military Standard: Not; ComponentLink1URL: https://datasheet.ciiva.com/11819/0900766b8106beab-11819782.pdf?src-supplier=RSComponents; ComponentLink1Description: https://datasheet.ciiva.com/11819/0900766b8106beab-11819782.pdf?src-supplier=RSComponents; ComponentLink2URL: https://datasheet.ciiva.com/7660/38627-7660798.pdf?src-supplier=Element14; ComponentLink2Description: https://datasheet.ciiva.com/7660/38627-7660798.pdf?src-supplier=Element14; ComponentLink3URL: https://datasheet.ciiva.com/46447/444164-46447566.pdf?src-supplier=Element14; ComponentLink3Description: https://datasheet.ciiva.com/46447/444164-46447566.pdf?src-supplier=Element14; ComponentLink4URL: https://datasheet.ciiva.com/2457/pyu-r-int-thick-7-2457000.pdf?src-supplier=Digi-Key; ComponentLink4Description: https://datasheet.ciiva.com/2457/pyu-r-int-thick-7-2457000.pdf?src-supplier=Digi-Key; ComponentLink5URL: https://datasheet.ciiva.com/2457/pyu-r-int-thick-7-2457001.pdf?src-supplier=Digi-Key; ComponentLink5Description: https://datasheet.ciiva.com/2457/pyu-r-int-thick-7-2457001.pdf?src-supplier=Digi-Key; ComponentLink6URL: https://datasheet.ciiva.com/2456/pyu-r-int-thick-7-2456999.pdf?src-supplier=Digi-Key; ComponentLink6Description: https://datasheet.ciiva.com/2456/pyu-r-int-thick-7-2456999.pdf?src-supplier=Digi-Key; ComponentLink7URL: https://datasheet.ciiva.com/12668/rc0805-12668251.pdf?src-supplier=Mouser; ComponentLink7Description: https://datasheet.ciiva.com/12668/rc0805-12668251.pdf?src-supplier=Mouser; Supplier Part Number 1: 311-150CRCT-ND
footprint RESC2012X05N - 0805 (Chip Resistor, 2-Leads, Body 2/00x1/25mm, IPC Medium Density)
footprint RESC2012X05M - 0805 (Chip Resistor, 2-Leads, Body 2/00x1/25mm, IPC Low Density)
footprint RESC2012X05L - 0805 (Chip Resistor, 2-Leads, Body 2/00x1/25mm, IPC High Density)
pins: 1, 2

## RES_220K-0.05W-1%-0201
designator R?, comment 220K
YAGEO - RC0201FR-07220KL - SMD Chip Resistor, 0201 [0603 Metric], 220 kohm, RC Series, Thick Film, 50 mW; Tolerance: 1%; Resistance: 220kR; Power Rating: 50mW; Voltage Rating: 25V; Temperature Coefficient: 200ppm/°C; Supplier 1: Digi-Key; Manufacturer: Yageo; Manufacturer Part Number: RC0201FR-07220KL; RoHS: Yes; Category: Chip SMD Resistors; Stock 1: 243785; Pricing 1: 1=0/10000, 10=0/04200, 100=0/01700, 1000=0/00765, 2500=0/00664, 5000=0/00548 (USD); Case/Package: 0201; Case Code (Imperial): 0201; Case Code (Metric): 0603; Size Code: 0201; Min Operating Temperature: -55°C; Max Operating Temperature: 125°C; Packaging: Cut Tape; Package Quantity: 10000; Resistor Type: Thick Film; Number of Terminations: 2; Termination: SMD/SMT; Max Power Dissipation: 50mW; Features: Moisture Resistant; Series: RC; Resistance Tolerance: 1%; Length: 0.024inch; Width: 0.012inch; Height: 0.01inch; REACH SVHC: Unknown; Lead Free: Lead Free; RoHS Compliant: Yes; ComponentLink1URL: https://datasheet.ciiva.com/14985/pyu-r-int-thick-7-14985447.pdf?src-supplier=Digi-Key; ComponentLink1Description: https://datasheet.ciiva.com/14985/pyu-r-int-thick-7-14985447.pdf?src-supplier=Digi-Key; ComponentLink2URL: https://datasheet.ciiva.com/22698/1563626-22698511.pdf?src-supplier=Element14; ComponentLink2Description: https://datasheet.ciiva.com/22698/1563626-22698511.pdf?src-supplier=Element14; Supplier Part Number 1: YAG2277CT-ND
footprint RESC0603X03N - 0201 (Chip Resistor, 2-Leads, Body 0/60x0/30mm, IPC Medium Density)
footprint RESC0603X03M - 0201 (Chip Resistor, 2-Leads, Body 0/60x0/30mm, IPC Low Density)
footprint RESC0603X03L - 0201 (Chip Resistor, 2-Leads, Body 0/60x0/30mm, IPC High Density)
pins: 1, 2

## RES_270R-0.1W-1%-0603
designator R?, comment 270R
Res Thick Film 0603 270 Ohm 1% 0.1W(1/10W) ±100ppm/°C Pad SMD T/R; Manufacturer: Yageo; Manufacturer Part Number: RC0603FR-07270RL; Voltage Rating (DC): 50V; Power Rating: 100mW; Supplier 1: Digi-Key; RoHS: Yes; Category: Chip SMD Resistors; Stock 1: 954114; Pricing 1: 1=0/10000, 10=0/02300, 100=0/00930, 1000=0/00417, 2500=0/00362 (USD); Case/Package: 0603; Number of Pins: 2; Case Code (Imperial): 0603; Case Code (Metric): 1608; Size Code: 0603; Min Operating Temperature: -55°C; Max Operating Temperature: 155°C; Resistance: 270R; Tolerance: 1%; Packaging: Tape and Reel; Temperature Coefficient: 100ppm/°C; Resistor Type: Thick Film; Number of Terminations: 2; Voltage Rating: 50V; Package Quantity: 1; Termination: SMD/SMT; Max Power Dissipation: 100mW; Features: Moisture Resistant; Series: RC; Resistance Tolerance: 1%; Technology: THICK FILM; Construction: Rectangular; Length: 1.6mm; Width: 0.031inch; Height: 0.022inch; Depth: 0.8mm; REACH SVHC: Unknown; Lead Free: Lead Free; RoHS Compliant: Yes; Military Standard: Not; ComponentLink1URL: https://datasheet.ciiva.com/11808/0900766b80f96399-11808131.pdf?src-supplier=RSComponents; ComponentLink1Description: https://datasheet.ciiva.com/11808/0900766b80f96399-11808131.pdf?src-supplier=RSComponents; ComponentLink2URL: https://datasheet.ciiva.com/2455/pyu-r-int-thick-7-2455027.pdf?src-supplier=Digi-Key; ComponentLink2Description: https://datasheet.ciiva.com/2455/pyu-r-int-thick-7-2455027.pdf?src-supplier=Digi-Key; ComponentLink3URL: https://datasheet.ciiva.com/2455/pyu-r-int-thick-7-2455028.pdf?src-supplier=Digi-Key; ComponentLink3Description: https://datasheet.ciiva.com/2455/pyu-r-int-thick-7-2455028.pdf?src-supplier=Digi-Key; ComponentLink4URL: https://datasheet.ciiva.com/2455/pyu-r-int-thick-7-2455026.pdf?src-supplier=Digi-Key; ComponentLink4Description: https://datasheet.ciiva.com/2455/pyu-r-int-thick-7-2455026.pdf?src-supplier=Digi-Key; ComponentLink5URL: https://datasheet.ciiva.com/7746/443971-7746309.pdf?src-supplier=Element14; ComponentLink5Description: https://datasheet.ciiva.com/7746/443971-7746309.pdf?src-supplier=Element14; ComponentLink6URL: https://datasheet.ciiva.com/7746/443971-7746310.pdf?src-supplier=Element14; ComponentLink6Description: https://datasheet.ciiva.com/7746/443971-7746310.pdf?src-supplier=Element14; ComponentLink7URL: https://datasheet.ciiva.com/15189/getdatasheetpartid-251843-15189675.pdf?src-supplier=Verical; ComponentLink7Description: https://datasheet.ciiva.com/15189/getdatasheetpartid-251843-15189675.pdf?src-supplier=Verical; Supplier Part Number 1: 311-270HRCT-ND
footprint RESC1608X04N - 0603 (Chip Resistor, 2-Leads, Body 1/60x0/80mm, IPC Medium Density)
footprint RESC1608X04M - 0603 (Chip Resistor, 2-Leads, Body 1/60x0/80mm, IPC Low Density)
footprint RESC1608X04L - 0603 (Chip Resistor, 2-Leads, Body 1/60x0/80mm, IPC High Density)
pins: 1, 2

## RES_270R-0.25W-1%-1206
designator R?, comment 270R
YAGEO - RC1206FR-07270RL - SMD Chip Resistor, 1206 [3216 Metric], 270 ohm, RC Series, 200 V, Thick Film, 250 mW; Tolerance: 1%; Power Rating: 250mW; Voltage Rating: 200V; Temperature Coefficient: 100ppm/°C; Supplier: Digi-Key; Supplier Part Number: 311-270FRCT-ND; Manufacturer: Yageo; Manufacturer Part Number: RC1206FR-07270RL; RoHS: Yes; Category: Chip SMD Resistors; Stock: 270100; Pricing: 1=0.10000, 10=0.05900, 100=0.02380, 1000=0.01071, 2500=0.00929 (USD); Case/Package: 1206; Case Code (Metric): 3216; Case Code (Imperial): 1206; Min Operating Temperature: -55°C; Max Operating Temperature: 155°C; Value: 270R; Package Quantity: 1; Packaging: Cut Tape; Resistor Type: Thick Film; Number of Terminations: 2; Termination: SMD/SMT; Max Power Dissipation: 250mW; Features: Moisture Resistant; Series: RC; Construction: Rectangular; Resistance Tolerance: 1%; Technology: THICK FILM; Length: 3.1mm; Width: 0.063inch; Height: 0.55mm; Depth: 1.6mm; Military Standard: Not; Lead Free: Lead Free; RoHS Compliant: Yes; ComponentLink1URL: https://datasheet.ciiva.com/11819/0900766b80c6630a-11819935.pdf?src-supplier=Rs; ComponentLink1Description: https://datasheet.ciiva.com/11819/0900766b80c6630a-11819935.pdf?src-supplier=Rs; ComponentLink2URL: https://datasheet.ciiva.com/6547/pyu-rc1206-51-rohs-l-4-6547273.pdf?src-supplier=Digi-Key; ComponentLink2Description: https://datasheet.ciiva.com/6547/pyu-rc1206-51-rohs-l-4-6547273.pdf?src-supplier=Digi-Key; ComponentLink3URL: https://datasheet.ciiva.com/6547/pyu-rc1206-51-rohs-l-4-6547274.pdf?src-supplier=Digi-Key; ComponentLink3Description: https://datasheet.ciiva.com/6547/pyu-rc1206-51-rohs-l-4-6547274.pdf?src-supplier=Digi-Key; ComponentLink4URL: https://datasheet.ciiva.com/6547/pyu-rc1206-51-rohs-l-4-6547272.pdf?src-supplier=Digi-Key; ComponentLink4Description: https://datasheet.ciiva.com/6547/pyu-rc1206-51-rohs-l-4-6547272.pdf?src-supplier=Digi-Key; ComponentLink5URL: https://datasheet.ciiva.com/7857/444357-7857310.pdf?src-supplier=Element14; ComponentLink5Description: https://datasheet.ciiva.com/7857/444357-7857310.pdf?src-supplier=Element14; ComponentLink6URL: https://datasheet.ciiva.com/7857/444357-7857309.pdf?src-supplier=Element14; ComponentLink6Description: https://datasheet.ciiva.com/7857/444357-7857309.pdf?src-supplier=Element14; ComponentLink7URL: https://datasheet.ciiva.com/17052/pyu-rc1206-51-rohs-l-4-17052059.pdf?src-supplier=Future+Electronics; ComponentLink7Description: https://datasheet.ciiva.com/17052/pyu-rc1206-51-rohs-l-4-17052059.pdf?src-supplier=Future+Electronics
footprint RESC3116X06N - 1206 (Chip Resistor, 2-Leads, Body 3/10x1/60mm, IPC Medium Density)
footprint RESC3116X06M - 1206 (Chip Resistor, 2-Leads, Body 3/10x1/60mm, IPC Low Density)
footprint RESC3116X06L - 1206 (Chip Resistor, 2-Leads, Body 3/10x1/60mm, IPC High Density)
pins: 1, 2